# EAGLE library part PE4259 (library PE4259)
PART NUMBER ONLY Source: Datasheet <https://datasheet.datasheetarchive.com/originals/distributors/SFDatasheet-2/sf-00045491.pdf>
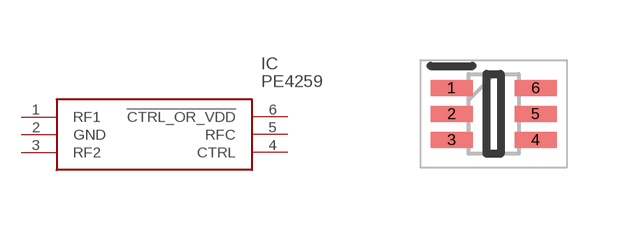
[diagram p0: symbol with the pads of SOT65P210X110-6N; footprint SOT65P210X110-6N]

Designator prefix IC

## PE4259 (Description: PART NUMBER ONLY; Height: 1.1mm; Manufacturer_Name: Peregrine Semiconductor; Manufacturer_Part_Number: PE4259)  [SOT65P210X110-6N]
1  RF1
2  GND
3  RF2
4  CTRL
5  RFC
6  !CTRL_OR_VDD

## Footprint SOT65P210X110-6N (pad centres in mm)
PE4259
smd 1.05 x 0.4: 1 -1.05,0.65; 2 -1.05,0; 3 -1.05,-0.65; 4 1.05,-0.65; 5 1.05,0; 6 1.05,0.65